# Altium schematic symbol library ASV.SchLib: 10 symbols
Pins are listed as number, name and electrical type; pins without a type are passive.

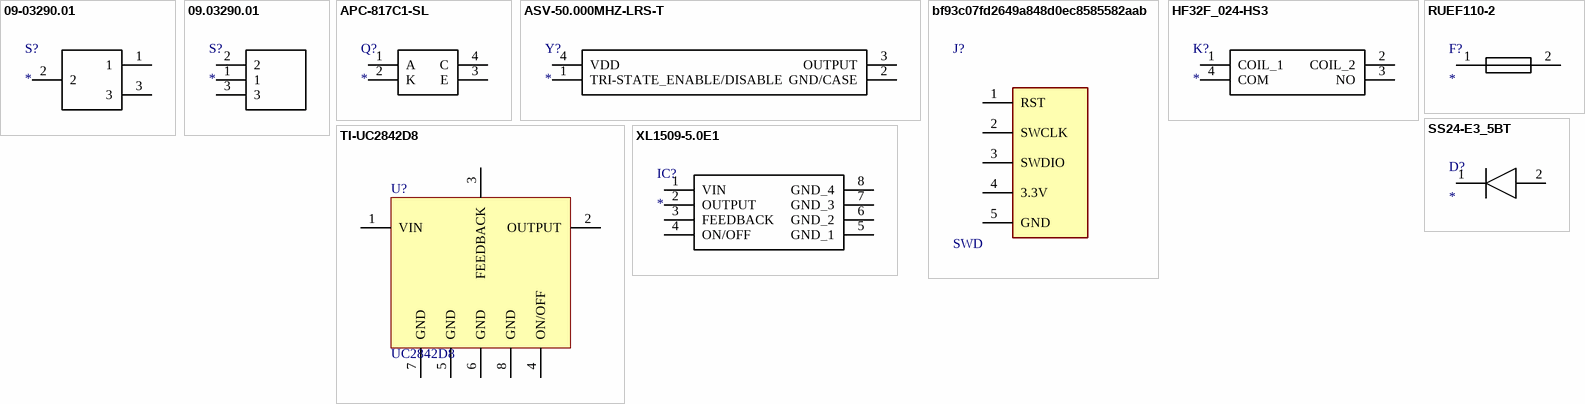
[diagram p0: symbols 09-03290.01 to XL1509-5.0E1]

## 09-03290.01
designator S?
Switch; Manufacturer_Name: EOZ; Manufacturer_Part_Number: 09-03290.01
footprint 09.03290.01
pins: 1, 2, 3

## 09.03290.01
designator S?
Switch; Manufacturer_Name: EOZ; Manufacturer_Part_Number: 09.03290.01; Datasheet Link: https://media.digikey.com/pdf/Data%20Sheets/EAO%20PDFs/series1k2_201004.pdf
footprint 09.03290.01
pins: 1, 2, 3

## APC-817C1-SL
designator Q?
Phototransistor; Manufacturer_Name: American Bright Optoelectronics Corporation; Manufacturer_Part_Number: APC-817C1-SL; Datasheet Link: https://www.americanbrightled.com/pdffiles/ir-uv/ir/APC-817.pdf; Height: 4.05mm
footprint APC817C1SL
pins: 1 A, 2 K, 3 E, 4 C

## ASV-50.000MHZ-LRS-T
designator Y?
Crystal or Oscillator; Manufacturer_Name: ABRACON; Manufacturer_Part_Number: ASV-50.000MHZ-LRS-T; Description: 50 MHz XO (Standard) HCMOS Oscillator 3.3V Enable/Disable 4-SMD; Datasheet Link: https://abracon.com/Oscillators/ASV.pdf; Height: 1.8mm; Mouser Part Number: 815-ASV50000MHZLRST; Mouser Price/Stock: https://www.mouser.co.uk/ProductDetail/ABRACON/ASV-50.000MHZ-LRS-T?qs=vmHwEFxEFR%252BcE99Zr2GZkQ%3D%3D
footprint ASV25000MHZEJT
pins: 1 TRI-STATE_ENABLE/DISABLE, 2 GND/CASE, 3 OUTPUT, 4 VDD

## bf93c07fd2649a848d0ec8585582aab
designator J?, comment SWD
22-28-4050 KK® 254 Breakaway Header, Vertical, 5 Circuits, Tin (Sn) Plating, Mating Pin Length 6.09mm; NexarPartId: 278173; Voltage Rating: 250V; Number of Contacts: 5; Contact Resistance: 20mΩ; Gender: Male; Pitch: 2.54mm; Connector Type: Male Pin; Current Rating: 4A; Glow Wire Compliant: Non-compliant; Max Voltage Rating (DC): 250.25kV; Flammability Rating: UL94 V-0; Min Operating Temperature: 0°C; REACH SVHC: Unknown; Lead Free: Lead Free; Termination: Solder; RoHS: Compliant; Schedule B: 8536694040; Number of Circuits: 5; Mount: Through Hole; Lead Pitch: 2.54mm; Height: 2.29mm; Voltage Rating (DC): 250V; Max Operating Temperature: 75°C; Width: 2.49mm; Radiation Hardening: No; Contact Plating: Tin; Orientation: Vertical; Length: 12.7mm; Number of Rows: 1; Housing Material: Thermoplastic; Contact Material: Brass; Packaging: Bulk; Contact Mating Length: 6.096mm; Housing Color: Black; Color: Black; Number of Positions: 5
footprint FP-22-28-4050-MFG (KK® 254 Breakaway Header, Vertical, 5 Circuits, Tin (Sn) Plating, Mating Pin Length 6.09mm)
pins: 1 RST, 2 SWCLK, 3 SWDIO, 4 3.3V, 5 GND

## HF32F_024-HS3
designator K?
Relay or Contactor; Manufacturer_Name: Hongfa; Manufacturer_Part_Number: HF32F/024-HS3; Datasheet Link: https://source.hongfa.com//Api/DownloadPdf/265; Height: 15.8mm
footprint HF32F024HS3
pins: 1 COIL_1, 2 COIL_2, 3 NO, 4 COM

## RUEF110-2
designator F?
Fuse; Manufacturer_Name: LITTELFUSE; Manufacturer_Part_Number: RUEF110-2; Datasheet Link: https://www.littelfuse.com/~/media/electronics/product_specifications/resettable_ptcs/littelfuse_ptc_ruef110_product_specification.pdf.pdf; Height: 14.2mm; Mouser Part Number: 650-RUEF110-2; Mouser Price/Stock: https://www.mouser.co.uk/ProductDetail/Littelfuse/RUEF110-2?qs=k5V78Jg%2Feq5PDttMRR0ePQ%3D%3D; Arrow Part Number: RUEF110-2; Arrow Price/Stock: https://www.arrow.com/en/products/ruef110-2/littelfuse?region=nac
footprint RUEF1102
pins: 1, 2

## SS24-E3_5BT
designator D?
Diode; Manufacturer_Name: Vishay; Manufacturer_Part_Number: SS24-E3/5BT; Datasheet Link: http://www.vishay.com/docs/88748/ss22.pdf; Height: 2.44mm; Mouser Part Number: 625-SS24-E3/5BT; Mouser Price/Stock: https://www.mouser.co.uk/ProductDetail/Vishay-General-Semiconductor/SS24-E3-5BT?qs=x2jpVgRnAtPao%2FlgT1qL5A%3D%3D; Arrow Part Number: SS24-E3/5BT; Arrow Price/Stock: https://www.arrow.com/en/products/ss24-e35bt/vishay.html?utm_currency=USD&region=europe
footprint DIOM5436X244N
pins: 1 K, 2 A

## TI-UC2842D8
designator U?, comment UC2842D8
PWM Controller with Current Control, 100 % Duty Cycle, -40 to +85 degC, 8-pin SOIC (D), Green (RoHS & no Sb/Br); Manufacturer: Texas Instruments; Topology: Boost, Flyback, Forward; Rating: Military; Regulated Outputs(#): 1; Duty Cycle(Max)(%): 100; Frequency(Max)(kHz): 450; PackageVersion: revM, Jun-2011; PackageReference: D0008A; ComponentLink1URL: http://www.ti.com/general/docs/lit/getliterature.tsp?genericPartNumber=UC2842&fileType=pdf; DatasheetVersion: SLUS223C; PartNumber: UC2842D8; UVLO Thresholds On/Off(V): 16/10/2012; Eco-Plan: Green (RoHS & no Sb/Br); Mounting Technology: Surface Mount; PackageDescription: 8-Pin Plastic Small Outline Integrated Circuit, 4.9 x 3.9 mm, Pitch 1.27 mm Pitch; Control Method: Current; Code_JEDEC: MS-012AA; SubFamily: PWM Controller; ComponentLink1Description: Datasheet
footprint D0008A_M (SOIC, 8-Leads, Body 5x4mm, Pitch 1.27mm, IPC Low Density)
footprint D0008A_L (SOIC, 8-Leads, Body 5x4mm, Pitch 1.27mm, IPC High Density)
footprint D0008A_N (SOIC, 8-Leads, Body 5x4mm, Pitch 1.27mm, IPC Medium Density)
pins: 1 VIN, 2 OUTPUT, 3 FEEDBACK, 4 ON/OFF, 5 GND (power), 6 GND, 7 GND (power), 8 GND

## XL1509-5.0E1
designator IC?
Integrated Circuit; Manufacturer_Name: XLSEMI; Manufacturer_Part_Number: XL1509-5.0E1; Datasheet Link: https://datasheet.lcsc.com/szlcsc/XLSEMI-XL1509-5-0E1_C61063.pdf; Height: 1.75mm
footprint SOIC127P600X175-8N
footprint SOIC127P600X175-8N
pins: 1 VIN, 2 OUTPUT, 3 FEEDBACK, 4 ON/OFF, 5 GND_1, 6 GND_2, 7 GND_3, 8 GND_4